# EAGLE library part LTC3569EUDPBF (library power)
Triple Buck Regulator with 1.2A and Two 600mA Outputs and Individual Programmable References Check availability <https://pricing.snapeda.com/parts/LTC3569EUD%23PBF/Analog%20Devices/view-part?ref=eda>
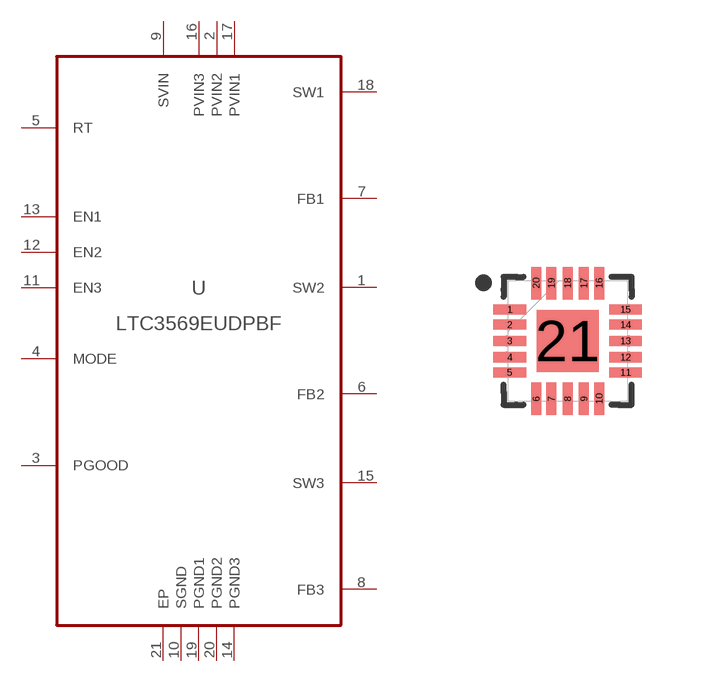
[diagram p14: symbol with the pads of QFN40P300X300X80-21N; footprint QFN40P300X300X80-21N]

Designator prefix U

## LTC3569EUDPBF (AVAILABILITY: In Stock; DESCRIPTION: Buck Switching Regulator IC Positive Adjustable 0.425V 3 Output 600mA, 1.2A 20-WFQFN Exposed Pad; MF: Analog Devices; MP: LTC3569EUD#PBF; PACKAGE: QFN -20 Analog Devices; PRICE: None; PURCHASE-URL: https://pricing.snapeda.com/search/part/LTC3569EUD#PBF/?ref=eda)  [QFN40P300X300X80-21N]
1  SW2  pas
2  PVIN2  pwr
3  PGOOD  out
4  MODE  in
5  RT  pas
6  FB2  in
7  FB1  in
8  FB3  in
9  SVIN  pwr
10  SGND  pas
11  EN3  in
12  EN2  in
13  EN1  in
14  PGND3  pas
15  SW3  pas
16  PVIN3  pwr
17  PVIN1  pwr
18  SW1  pas
19  PGND1  pas
20  PGND2  pas
21  EP  pas

## Footprint QFN40P300X300X80-21N (pad centres in mm)
smd 0.813 x 0.254: 1 -1.448,0.787; 2 -1.448,0.406; 3 -1.448,0; 4 -1.448,-0.406; 5 -1.448,-0.787; 11 1.448,-0.787; 12 1.448,-0.406; 13 1.448,0; 14 1.448,0.406; 15 1.448,0.787
smd 0.254 x 0.813: 6 -0.787,-1.448; 7 -0.406,-1.448; 8 0,-1.448; 9 0.406,-1.448; 10 0.787,-1.448; 16 0.787,1.448; 17 0.406,1.448; 18 0,1.448; 19 -0.406,1.448; 20 -0.787,1.448
smd 1.549 x 1.549: 21 0,0